# Altium schematic symbol library Kodba_Mario.SchLib: 5 symbols
Pins are listed as number, name and electrical type; pins without a type are passive.

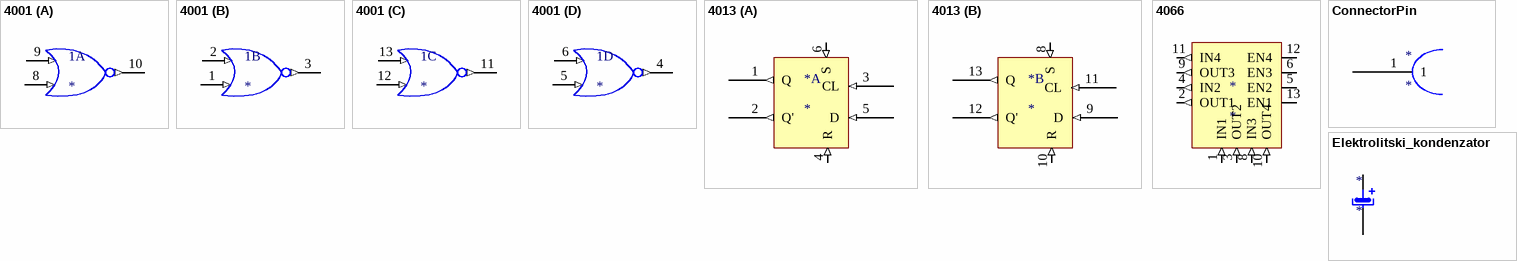
[diagram p0: symbols 4001 to Elektrolitski_kondenzator]

## 4001
designator 1
footprint SOP14
part A pins: 7 GND (power) hidden to GND, 8 13 (in), 9 12 (in), 10 11 (out), 14 VCC (power) hidden to VCC
part B pins: 1 13 (in), 2 12 (in), 3 11 (out)
part C pins: 11 (out), 12 13 (in), 13 12 (in)
part D pins: 4 11 (out), 5 13 (in), 6 12 (in)

## 4013
designator *
footprint SOP14
part A pins: 1 Q (out), 2 Q' (out), 3 CL (in), 4 R (in), 5 D (in), 6 S (in), 7 GND (power) hidden to GND, 14 VDD (power) hidden to VCC
part B pins: 8 S (in), 9 D (in), 10 R (in), 11 CL (in), 12 Q' (out), 13 Q (out)

## 4066
designator *
footprint SOP14
pins: 1 IN1 (in), 2 OUT1 (out), 3 OUT2 (in), 4 IN2 (out), 5 EN2, 6 EN3, 7 GND (power) hidden to GND, 8 IN3 (in), 9 OUT3 (out), 10 OUT4 (in), 11 IN4 (out), 12 EN4, 13 EN1, 14 VCC (power) hidden to VCC

## ConnectorPin
designator *
pins: 1

## Elektrolitski_kondenzator
designator *
pins: 1, 2